# Altium footprint library 39502_1002.PcbLib: 1 footprints
Each footprint in its own frame and in the unit in brackets; x right, y up, seen from the top. Pads: shape width x height; smd on the part's side, far side on the other; paste and mask are expansions set on the pad; w line width, h text height; cw(c..) or ccw(c..) is an arc to the next point about the centre after c.
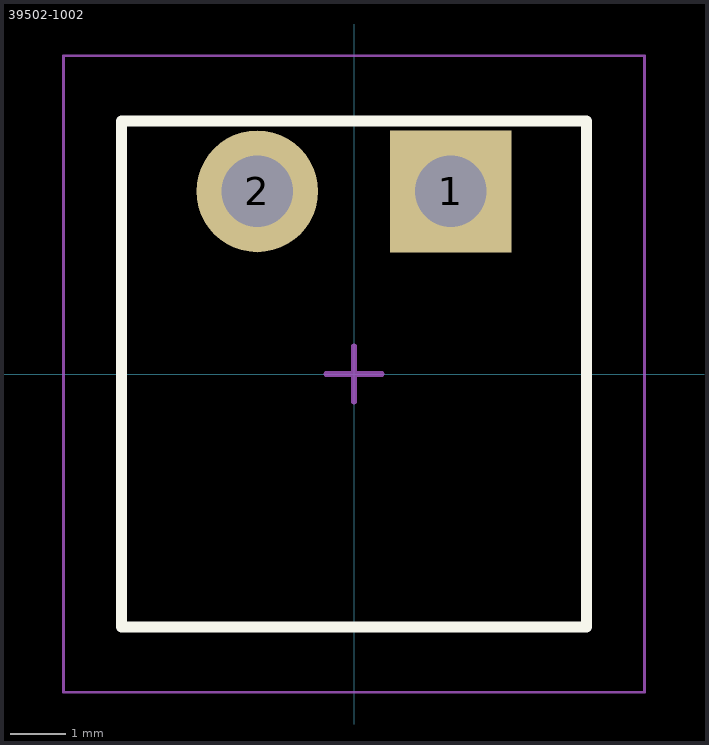
[diagram p0: the footprint, top view; thin cyan lines are the x and y axes]

## 39502-1002 [mm] "2 Position Terminal Block Header, Male Pins, Pitch 3.5mm, Right Angle, THT"
height 7.3
pads (2):
  rect 2.2x2.2 hole 1.295: 1(1.75,3.3)
  round 2.2 hole 1.295: 2(-1.75,3.3)
Top Overlay:
  lines w0.2: -4.2,-4.572 4.2,-4.572 4.2,4.572 -4.2,4.572 -4.2,-4.572
Top Comment:
  text ".Comment" at 1,6 h1.2
Top Designator:
  text ".Designator" at -0.5,6 h1.2
Top Component Outline:
  lines w0.1: 4.2,-4.572 4.2,4.572 ; 4.204,-4.572 -4.2,-4.572 -4.2,4.572 4.204,4.572
Top Courtyard:
  lines w0.05: -5.25,-5.75 -5.25,5.75 5.25,5.75 5.25,-5.75 -5.25,-5.75
  lines w0.1: -0.5,0 0,0 ; 0,-0.5 0,0 ; 0,0.5 0,0 ; 0.5,0 0,0
3D body "Molex - 395021002.step": height 7.11, standoff -3.56, extent -4.216,-4.572 4.216,4.572